# Altium integrated library 16SVPE470M.IntLib: 2 symbols
Pins are listed as number, name and electrical type; pins without a type are passive.

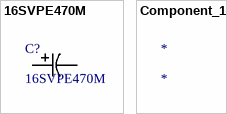
[diagram p0: symbols 16SVPE470M to Component_1]

## 16SVPE470M
designator C?
No Description Available; Mfr_Name: Panasonic; Type: DEV; Copyright: Copyright (C) 2022 Ultra Librarian. All rights reserved.; Manufacturer_Part_Number: 16SVPE470M; Digi-Key_Part_Number_1: P16477CT-ND; Digi-Key_Part_Number_2: P16477DKR-ND; Digi-Key_Part_Number_3: P16477TR-ND; RefDes: RefDes
footprint PCAP_SVP_F12_PAN
pins: 1, 2

## Component_1
designator *